# Altium integrated library Silicon Labs Audio.IntLib: 141 symbols (part 7 of 7)
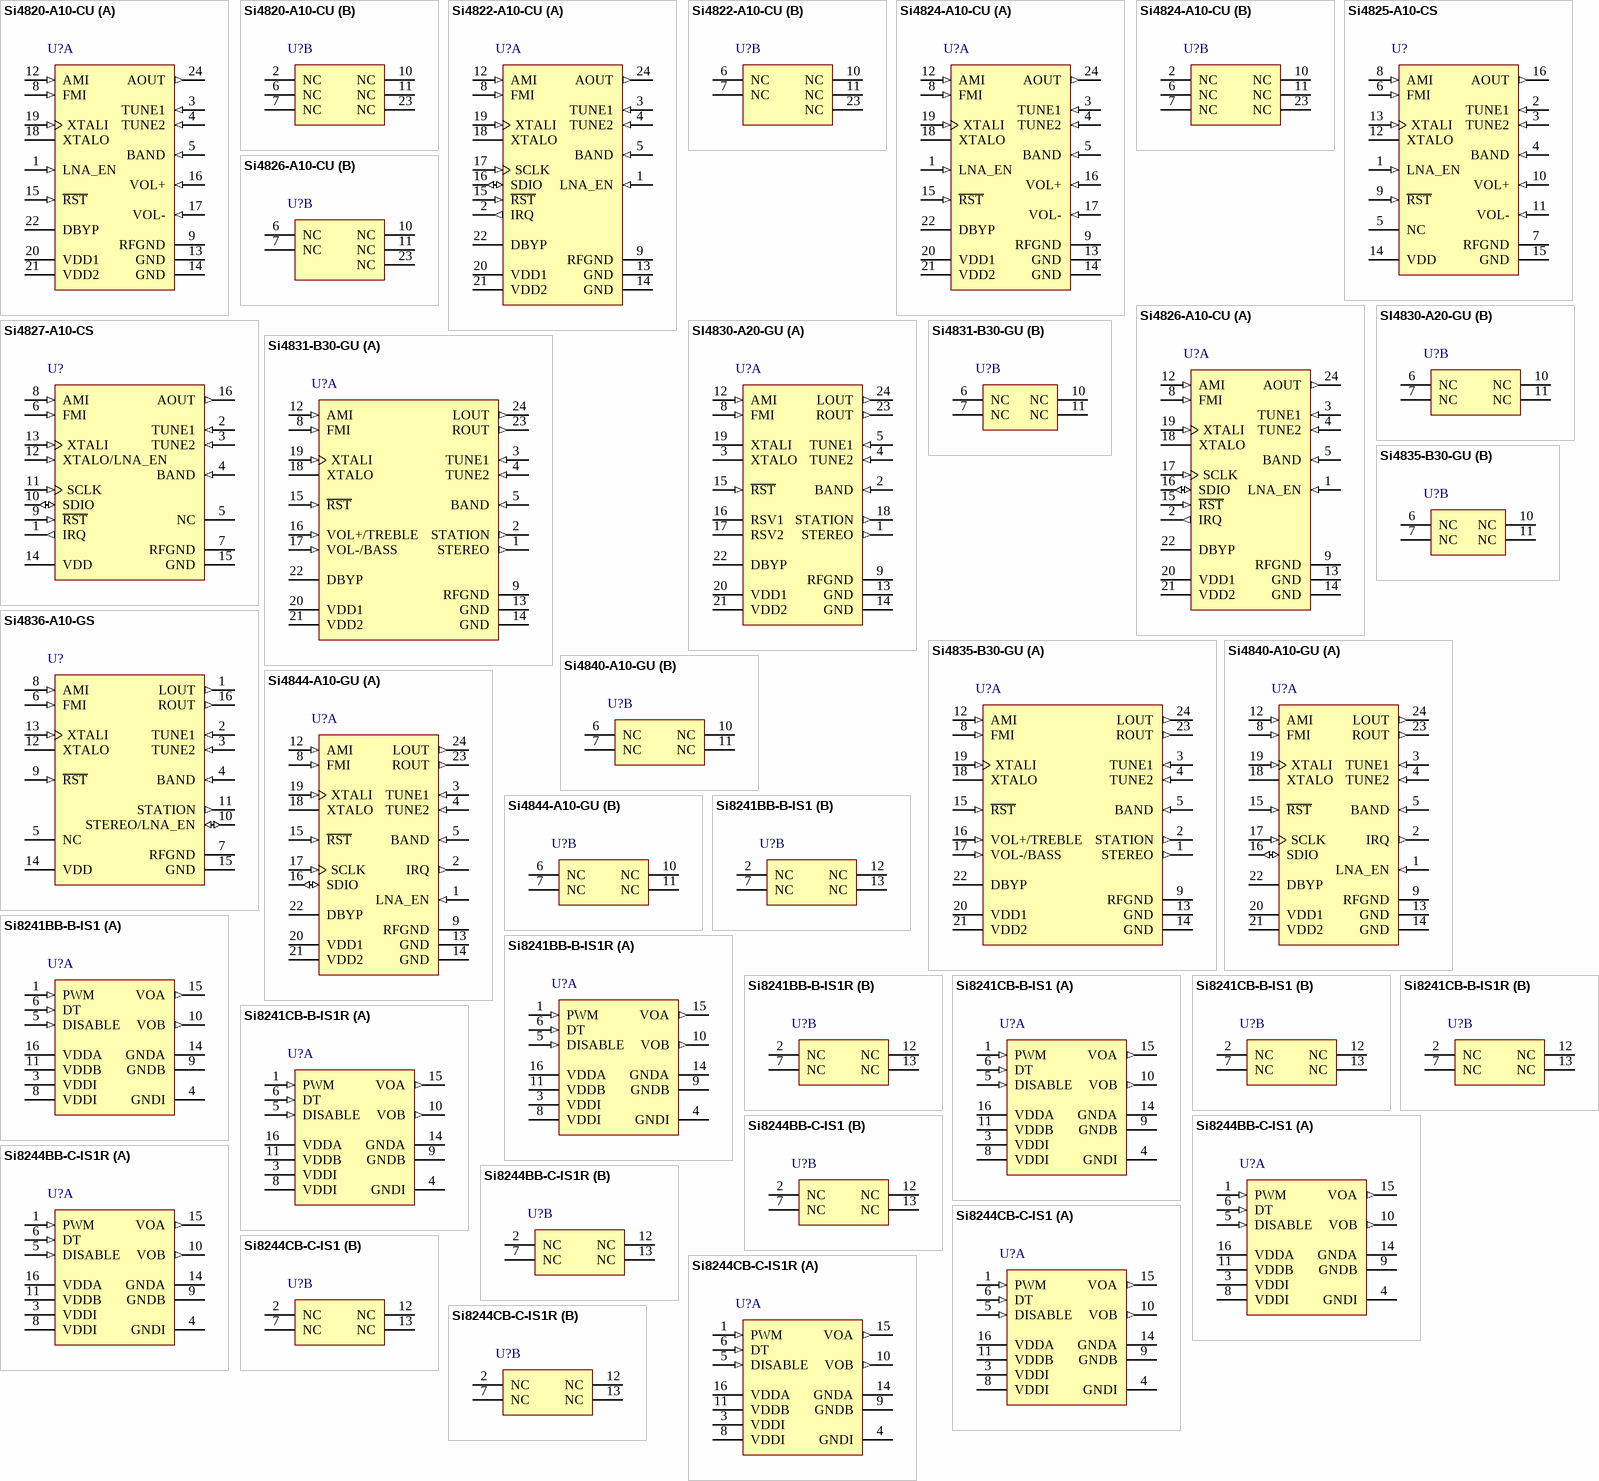
[diagram p13: symbols Si4820-A10-CU to Si8244CB-C-IS1R]

## Si8244CB-C-IS1R
designator U?
Class D Audio Driver with Precision Dead-Time Generator, -40 to 125 degC, 16-pin SOIC, Tape and Reel; Manufacturer: Silicon Labs; PartNumber: Si8244CB-C-IS1R; Drive Strength: 4 A; Input Type: PWM; Isolation Rating: 2.5 kV rms; Outputs: High Side / Low Side; UVLO Voltage: 10 V; Sub-Family: Class D Audio Drivers; DatasheetVersion: Rev. 0.3; PackageReference: SOIC-16-NB; PackageDescription: 16-Pin Small-Outline Integrated Circuit, Body 9.9 x 3.9 mm, Pitch 1.27 mm; Supplier 1: Digi-Key; Supplier Part Number 1: SI8244CB-C-IS1R-ND; Supplier 2: Mouser; Supplier Part Number 2: 634-SI8244CB-C-IS1R; Packing: Tape and Reel; Mounting Technology: Surface Mount; Code_JEDEC: MS-012; Code_IPC: J-STD-020; ComponentLink1Description: Manufacturer URL; ComponentLink1URL: http://www.silabs.com/; ComponentLink2Description: Datasheet; ComponentLink2URL: http://www.silabs.com/Support Documents/TechnicalDocs/Si824x.pdf; ComponentLink3Description: Package Specification; ComponentLink3URL: http://www.silabs.com/Support%20Documents/TechnicalDocs/si2401.pdf
footprint SLAB-SOIC-16-NB_N (SOIC, 16-Leads, Body 9.9x3.9mm, Pitch 1.27mm, IPC Medium Density)
footprint SLAB-SOIC-16-NB_L (SOIC, 16-Leads, Body 9.9x3.9mm, Pitch 1.27mm, IPC High Density)
footprint SLAB-SOIC-16-NB_M (SOIC, 16-Leads, Body 9.9x3.9mm, Pitch 1.27mm, IPC Low Density)
part A pins: 1 PWM (in) "PWM input.", 3 VDDI (power) "Input-side power supply terminal; connect to a source of 4.5 to 5.5 V.", 4 GNDI (power) "Input-side ground terminal.", 5 DISABLE (in) "Device Disable. When high, this input unconditionally drives outputs VOA, VOB LOW. It is strongly recommended that this input be connected to external logic level to avoid erroneous operation due to capacitive noise coupling.", 6 DT (in) "Dead time programming input. The value of the resistor connected from DT to ground sets the dead time between output transitions of VOA and VOB. Defaults to 1 ns dead time when connected to VDDI or left open", 8 VDDI (power) "Input-side power supply terminal; connect to a source of 4.5 to 5.5 V.", 9 GNDB (power) "Ground terminal for Driver B.", 10 VOB (out) "Driver B output (low-side driver).", 11 VDDB (power) "Driver B power supply voltage terminal; connect to a source of 6.5 to 24 V.", 14 GNDA (power) "Ground terminal for Driver A.", 15 VOA (out) "Driver A output (high-side driver).", 16 VDDA (power) "Driver A power supply voltage terminal; connect to a source of 6.5 to 24 V."
part B pins: 2 NC "No connection.", 7 NC "No connection.", 12 NC "No connection.", 13 NC "No connection."